# Altium schematic symbol library DZ_Schlib.SchLib: 7 symbols
Pins are listed as number, name and electrical type; pins without a type are passive.

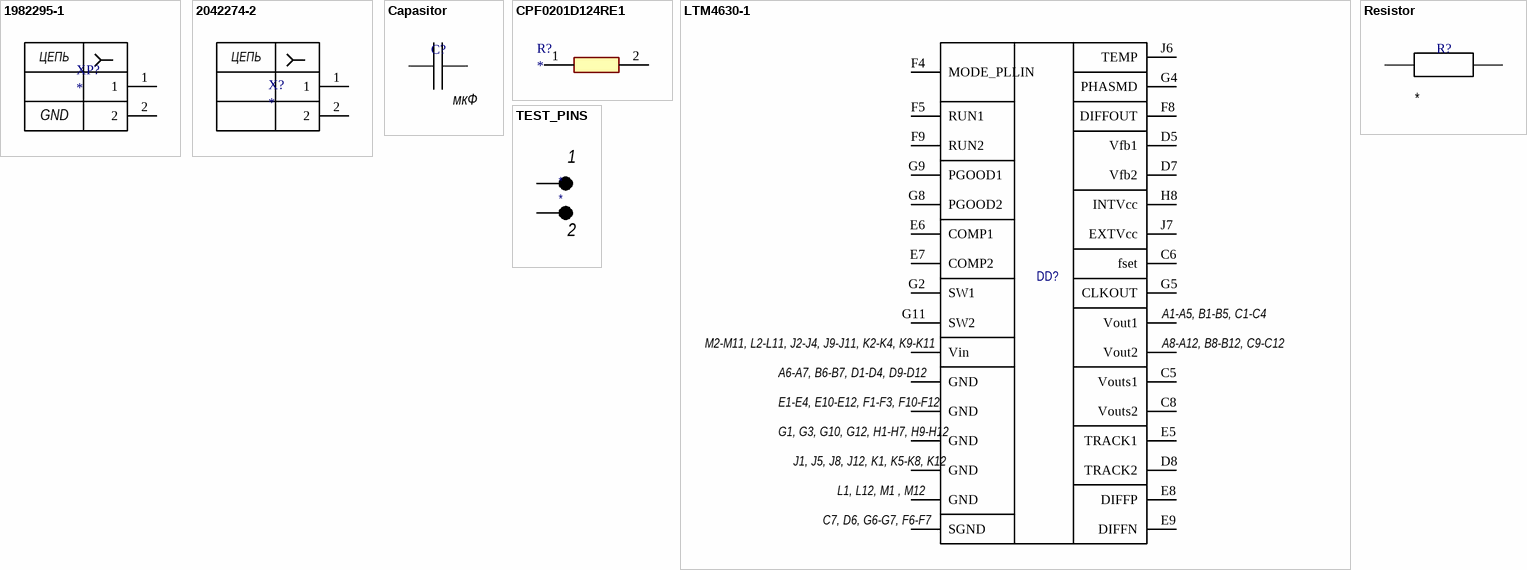
[diagram p0: symbols 1982295-1 to TEST_PINS]

## 1982295-1
designator XP?
Connector; Manufacturer_Name: TE Connectivity; Manufacturer_Part_Number: 1982295-1; Datasheet Link: https://www.te.com/commerce/DocumentDelivery/DDEController?Action=srchrtrv&DocNm=1-1773894-6_ELCON_Mini_QRG_EN&DocType=Data+Sheet&DocLang=English&PartCntxt=1982295-1&DocFormat=pdf; Height: 8mm; Mouser Part Number: 571-1982295-1; Mouser Price/Stock: https://www.mouser.co.uk/ProductDetail/TE-Connectivity/1982295-1?qs=TL6PIybY3BPz%2FGEsZ%2FgbXA%3D%3D; Arrow Part Number: 1982295-1; Arrow Price/Stock: https://www.arrow.com/en/products/1982295-1/te-connectivity
footprint 19822951
pins: 1, 2 (oe)
text: ЦЕПЬ; GND

## 2042274-2
designator X?
Connector; Manufacturer_Name: TE Connectivity; Manufacturer_Part_Number: 2042274-2; Datasheet Link: https://www.te.com/commerce/DocumentDelivery/DDEController?Action=showdoc&DocId=Customer+Drawing%7F2042274%7FC5%7Fpdf%7FEnglish%7FENG_CD_2042274_C5.pdf%7F2042274-2; Height: 11.1mm; Mouser Part Number: 571-2042274-2; Mouser Price/Stock: https://www.mouser.co.uk/ProductDetail/TE-Connectivity/2042274-2/?qs=TL6PIybY3BNOg9fJr2xjKg%3D%3D; Arrow Part Number: 2042274-2
footprint 20422742
pins: 1, 2    2 (oe)
text: ЦЕПЬ

## Capasitor
designator C?  Parameter 1: мкФ  (hidden comment: *)
footprint CAP: 0805
pins: 1, 2

## CPF0201D124RE1
designator R?
Resistor; Manufacturer_Name: TE Connectivity; Manufacturer_Part_Number: CPF0201D124RE1; Datasheet Link: http://www.te.com/commerce/DocumentDelivery/DDEController?Action=showdoc&DocId=Data+Sheet%7F1773200-1%7FA%7Fpdf%7FEnglish%7FENG_DS_1773200-1_A.pdf%7F4-2176215-6; Height: 0.28mm
footprint RESC0603X28N
pins: 1, 2

## LTM4630-1
designator DD?  (value not drawn)
footprint BGA144C127P12X12_1600X1600X501 (BGA, 144-Leads, Body 16,00x16,00mmx5,01mm, Pitch 1,27mm)
pins: A1 Vout1 (oe), A2 Vout1 (oe), A3 Vout1 (oe), A4 Vout1 (oe), A5 Vout1 (oe), A6 GND (oe), A7 GND (oe), A8 Vout2 (oe), A9 Vout2 (oe), A10 Vout2 (oe), A11 Vout2 (oe), A12 Vout2 (oe), B1 Vout1 (oe), B2 Vout1 (oe), B3 Vout1 (oe), B4 Vout1 (oe), B5 Vout1 (oe), B6 GND (oe), B7 GND (oe), B8 Vout2 (oe), B9 Vout2 (oe), B10 Vout2 (oe), B11 Vout2 (oe), B12 Vout2 (oe), C1 Vout1 (oe), C2 Vout1 (oe), C3 Vout1 (oe), C4 Vout1 (oe), C5 Vouts1 (oe), C6 fset (oe), C7 SGND (oe), C8 Vouts2 (oe), C9 Vout2 (oe), C10 Vout2 (oe), C11 Vout2 (oe), C12 Vout2 (oe), D1 GND (oe), D2 GND (oe), D3 GND (oe), D4 GND (oe), D5 Vfb1 (oe), D6 SGND (oe), D7 Vfb2 (oe), D8 TRACK2 (oe), D9 GND (oe), D10 GND (oe), D11 GND (oe), D12 GND (oe), E1 GND (oe), E2 GND (oe), E3 GND (oe), E4 GND (oe), E5 TRACK1 (oe), E6 COMP1 (oe), E7 COMP2 (oe), E8 DIFFP (oe), E9 DIFFN (oe), E10 GND (oe), E11 GND (oe), E12 GND (oe), F1 GND (oe), F2 GND (oe), F3 GND (oe), F4 MODE_PLLIN (oe), F5 RUN1 (oe), F6 SGND (oe), F7 SGND (oe), F8 DIFFOUT (oe), F9 RUN2 (oe), F10 GND (oe), F11 GND (oe), F12 GND (oe), G1 GND (oe), G2 SW1 (oe), G3 GND (oe), G4 PHASMD (oe), G5 CLKOUT (oe), G6 SGND (oe), G7 SGND (oe), G8 PGOOD2 (oe), G9 PGOOD1 (oe), G10 GND (oe), G11 SW2 (oe), G12 GND (oe), H1 GND (oe), H2 GND (oe), H3 GND (oe), H4 GND (oe), H5 GND (oe), H6 GND (oe), H7 GND (oe), H8 INTVcc (oe), H9 GND (oe), H10 GND (oe), H11 GND (oe), H12 GND (oe), J1 GND (oe), J2 Vin (oe), J3 Vin (oe), J4 Vin (oe), J5 GND (oe), J6 TEMP (oe), J7 EXTVcc (oe), J8 GND (oe), J9 Vin (oe), J10 Vin (oe), J11 Vin (oe), J12 GND (oe), K1 GND (oe), K2 Vin (oe), K3 Vin (oe), K4 Vin (oe), K5 GND (oe), K6 GND (oe), K7 GND (oe), K8 GND (oe), K9 Vin (oe), K10 Vin (oe), K11 Vin (oe), K12 GND (oe), L1 GND (oe), L2 Vin (oe), L3 Vin (oe), L4 Vin (oe), L5 Vin (oe), L6 Vin (oe), L7 Vin (oe), L8 Vin (oe), L9 Vin (oe), L10 Vin (oe), L11 Vin (oe), L12 GND (oe), M1 GND (oe), M2 Vin (oe), M3 Vin (oe), M4 Vin (oe), M5 Vin (oe), M6 Vin (oe), M7 Vin (oe), M8 Vin (oe), M9 Vin (oe), M10 Vin (oe), M11 Vin (oe), M12 GND (oe)
text: A1-A5, B1-B5, C1-C4; M2-M11, L2-L11, J2-J4, J9-J11, K2-K4, K9-K11; A8-A12, B8-B12, C9-C12; A6-A7, B6-B7, D1-D4, D9-D12; E1-E4, E10-E12, F1-F3, F10-F12; G1, G3, G10, G12, H1-H7, H9-H12; J1, J5, J8, J12, K1, K5-K8, K12; L1, L12, M1 , M12; C7, D6, G6-G7, F6-F7

## Resistor
designator R?
Parameter 1: *
footprint RES: 1206
pins: 1, 2

## TEST_PINS
designator *
footprint TEST_ZONE
pins: 1, 2